# EAGLE library part INA117 (library ADCs)
Difference Amplifier High Common-Mode Voltage
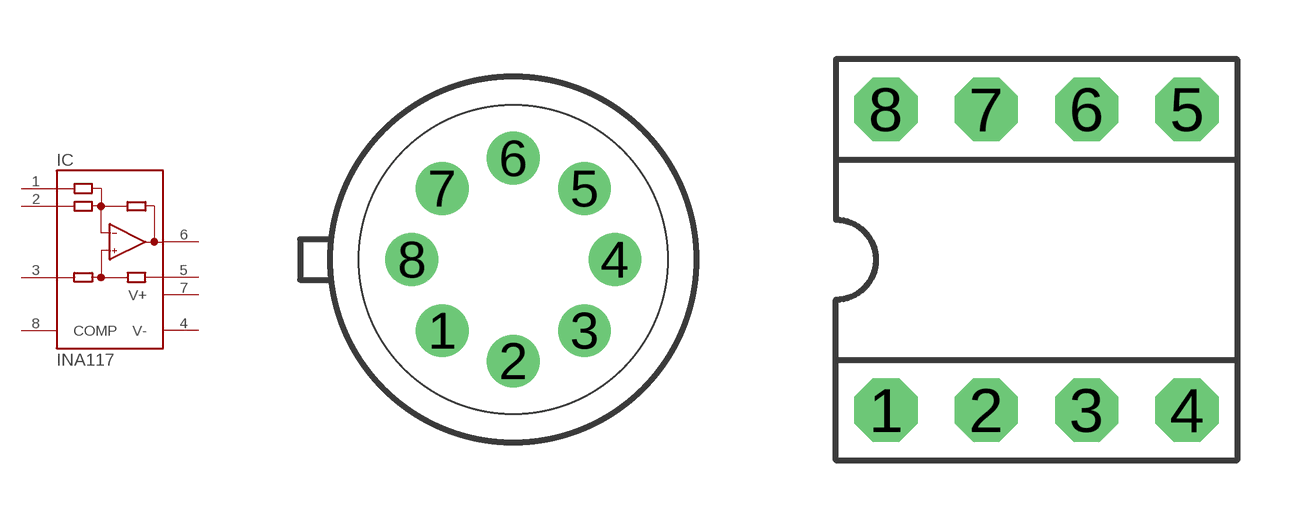
[diagram p137: symbol with the pads of TO99; footprints TO99, DIL08]

Designator prefix IC

## INA117M (MPN: INA117AM; OC_FARNELL: 1459424; OC_NEWARK: 61M6784)  [TO99]
1  REFB  in
2  -IN  in
3  +IN  in
4  V-  pwr
5  REFA  in
6  OUT  out
7  V+  pwr
8  COMP  pas

## INA117P (MF: TEXAS INSTRUMENTS; MPN: INA117P; OC_FARNELL: 1470350; OC_NEWARK: 74K3811)  [DIL08]
Pads as for TO99

## INA117U (MF: TEXAS INSTRUMENTS; MPN: INA117KU; OC_FARNELL: 1706653; OC_NEWARK: 17M6717)  [SO08]
Pads as for TO99

## Footprint TO99 (pad centres in mm)
Metal can Package
drill 0.813: 1 -1.778,-1.778; 2 0,-2.54; 3 1.778,-1.778; 4 2.54,0; 5 1.778,1.778; 6 0,2.54; 7 -1.778,1.778; 8 -2.54,0

## Footprint DIL08 (pad centres in mm)
Dual In Line
drill 0.813 pad 1.6 octagon: 1 -3.81,-3.81; 2 -1.27,-3.81; 3 1.27,-3.81; 4 3.81,-3.81; 5 3.81,3.81; 6 1.27,3.81; 7 -1.27,3.81; 8 -3.81,3.81

## Footprint SO08 (pad centres in mm)
Small Outline Package
smd 0.61 x 2.21: 1 -1.905,-2.616; 2 -0.635,-2.616; 3 0.635,-2.616; 4 1.905,-2.616; 5 1.905,2.616; 6 0.635,2.616; 7 -0.635,2.616; 8 -1.905,2.616